# Altium schematic symbol library CONN-SPE-JTAG-14P_2ROW.SchLib: 1 symbol
Pins are listed as number, name and electrical type; pins without a type are passive.

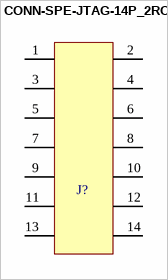
[diagram p0: symbol CONN-SPE-JTAG-14P_2ROW]

## CONN-SPE-JTAG-14P_2ROW
designator J?  (value not drawn)
pins: 1, 2, 3, 4, 5, 6, 7, 8, 9, 10, 11, 12, 13, 14